# Altium schematic symbol library SCH - MICROCONTROLLER - CY8C5888AXQ-LP096.SCHLIB: 1 symbol
Pins are listed as number, name and electrical type; pins without a type are passive.

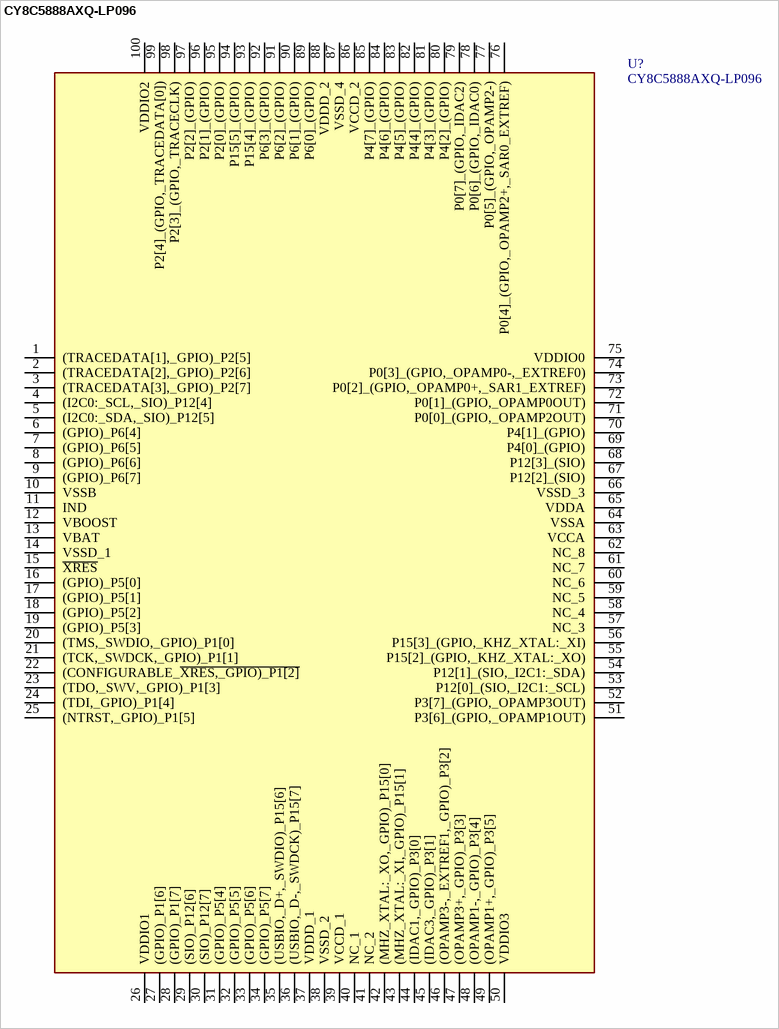
[diagram p0: symbol CY8C5888AXQ-LP096]

## CY8C5888AXQ-LP096
designator U?
Integrated Circuit
pins: 1 (TRACEDATA[1],_GPIO)_P2[5], 2 (TRACEDATA[2],_GPIO)_P2[6], 3 (TRACEDATA[3],_GPIO)_P2[7], 4 (I2C0:_SCL,_SIO)_P12[4], 5 (I2C0:_SDA,_SIO)_P12[5], 6 (GPIO)_P6[4], 7 (GPIO)_P6[5], 8 (GPIO)_P6[6], 9 (GPIO)_P6[7], 10 VSSB, 11 IND, 12 VBOOST, 13 VBAT, 14 VSSD_1, 15 ~{XRES}, 16 (GPIO)_P5[0], 17 (GPIO)_P5[1], 18 (GPIO)_P5[2], 19 (GPIO)_P5[3], 20 (TMS,_SWDIO,_GPIO)_P1[0], 21 (TCK,_SWDCK,_GPIO)_P1[1], 22 (CONFIGURABLE_~{XRES,_GPIO)_P1[2]}, 23 (TDO,_SWV,_GPIO)_P1[3], 24 (TDI,_GPIO)_P1[4], 25 (NTRST,_GPIO)_P1[5], 26 VDDIO1, 27 (GPIO)_P1[6], 28 (GPIO)_P1[7], 29 (SIO)_P12[6], 30 (SIO)_P12[7], 31 (GPIO)_P5[4], 32 (GPIO)_P5[5], 33 (GPIO)_P5[6], 34 (GPIO)_P5[7], 35 (USBIO,_D+,_SWDIO)_P15[6], 36 (USBIO,_D-,_SWDCK)_P15[7], 37 VDDD_1, 38 VSSD_2, 39 VCCD_1, 40 NC_1, 41 NC_2, 42 (MHZ_XTAL:_XO,_GPIO)_P15[0], 43 (MHZ_XTAL:_XI,_GPIO)_P15[1], 44 (IDAC1,_GPIO)_P3[0], 45 (IDAC3,_GPIO)_P3[1], 46 (OPAMP3-,_EXTREF1,_GPIO)_P3[2], 47 (OPAMP3+,_GPIO)_P3[3], 48 (OPAMP1-,_GPIO)_P3[4], 49 (OPAMP1+,_GPIO)_P3[5], 50 VDDIO3, 51 P3[6]_(GPIO,_OPAMP1OUT), 52 P3[7]_(GPIO,_OPAMP3OUT), 53 P12[0]_(SIO,_I2C1:_SCL), 54 P12[1]_(SIO,_I2C1:_SDA), 55 P15[2]_(GPIO,_KHZ_XTAL:_XO), 56 P15[3]_(GPIO,_KHZ_XTAL:_XI), 57 NC_3, 58 NC_4, 59 NC_5, 60 NC_6, 61 NC_7, 62 NC_8, 63 VCCA, 64 VSSA, 65 VDDA, 66 VSSD_3, 67 P12[2]_(SIO), 68 P12[3]_(SIO), 69 P4[0]_(GPIO), 70 P4[1]_(GPIO), 71 P0[0]_(GPIO,_OPAMP2OUT), 72 P0[1]_(GPIO,_OPAMP0OUT), 73 P0[2]_(GPIO,_OPAMP0+,_SAR1_EXTREF), 74 P0[3]_(GPIO,_OPAMP0-,_EXTREF0), 75 VDDIO0, 76 P0[4]_(GPIO,_OPAMP2+,_SAR0_EXTREF), 77 P0[5]_(GPIO,_OPAMP2-), 78 P0[6]_(GPIO,_IDAC0), 79 P0[7]_(GPIO,_IDAC2), 80 P4[2]_(GPIO), 81 P4[3]_(GPIO), 82 P4[4]_(GPIO), 83 P4[5]_(GPIO), 84 P4[6]_(GPIO), 85 P4[7]_(GPIO), 86 VCCD_2, 87 VSSD_4, 88 VDDD_2, 89 P6[0]_(GPIO), 90 P6[1]_(GPIO), 91 P6[2]_(GPIO), 92 P6[3]_(GPIO), 93 P15[4]_(GPIO), 94 P15[5]_(GPIO), 95 P2[0]_(GPIO), 96 P2[1]_(GPIO), 97 P2[2]_(GPIO), 98 P2[3]_(GPIO,_TRACECLK), 99 P2[4]_(GPIO,_TRACEDATA[0]), 100 VDDIO2